# Altium footprint library 87520-0010BLF.PcbLib: 1 footprints
Each footprint in its own frame and in the unit in brackets; x right, y up, seen from the top. Pads: shape width x height; smd on the part's side, far side on the other; paste and mask are expansions set on the pad; w line width, h text height; cw(c..) or ccw(c..) is an arc to the next point about the centre after c.
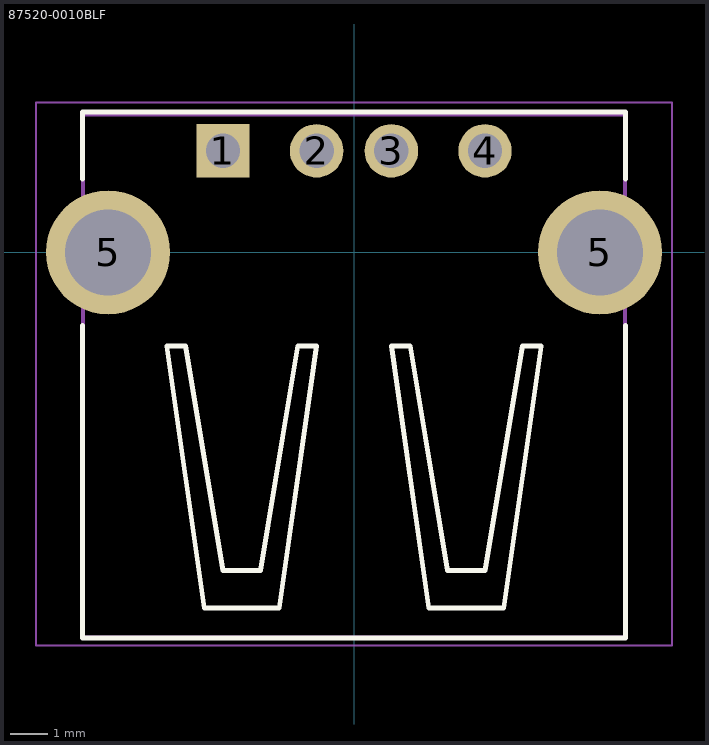
[diagram p0: the footprint, top view; thin cyan lines are the x and y axes]

## 87520-0010BLF [mm]
pads (6):
  rect 1.428x1.428 hole 0.92: 1(-3.5,2.71)
  round 1.428 hole 0.92: 2(-1,2.71) 3(1,2.71) 4(3.5,2.71)
  round 3.316 hole 2.3: 5(-6.57,0) 5(6.57,0)
Top Overlay:
  lines w0.127: -7.25,-1.95 -7.25,-10.3 7.25,-10.3 7.25,-1.95 ; -7.25,1.95 -7.25,3.75 7.25,3.75 7.25,1.95 ; -5,-2.5 -4.5,-2.5 -3.5,-8.5 -2.5,-8.5 -1.5,-2.5 -1,-2.5 -2,-9.5 -4,-9.5 -5,-2.5 ; 1,-2.5 1.5,-2.5 2.5,-8.5 3.5,-8.5 4.5,-2.5 5,-2.5 4,-9.5 2,-9.5 1,-2.5
Top Assembly:
  lines w0.1: -7.239,-10.287 7.239,-10.287 7.239,3.683 -7.239,3.683 -7.239,-10.287
Top Courtyard:
  lines w0.05: -8.5,-10.5 8.5,-10.5 8.5,4 -8.5,4 -8.5,-10.5
3D body "87520-0010BLFc.stp": height 7.74, standoff -2.74, extent -7.25,-10.317 7.25,3.683